# EAGLE library part MPU_6050_PULPO (library MPU_6050_PULPO)
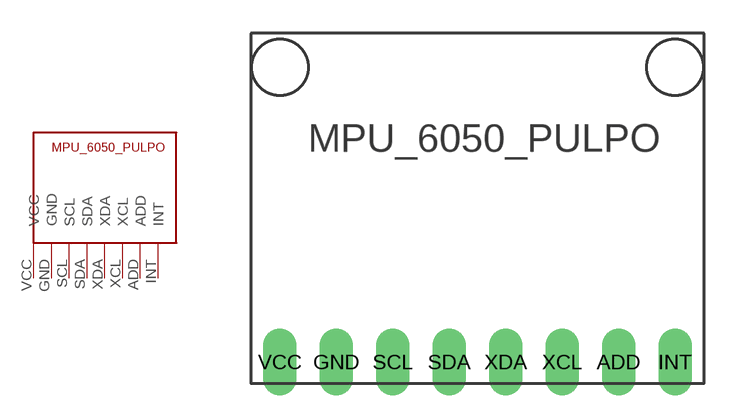
[diagram p0: symbol with the pads of MPU_6050_PULPO; footprint MPU_6050_PULPO]

Designator prefix -

## MPU_6050_PULPO  [MPU_6050_PULPO]
ADD  ADD
GND  GND
INT  INT
SCL  SCL
SDA  SDA
VCC  VCC
XCL  XCL
XDA  XDA

## Footprint MPU_6050_PULPO (pad centres in mm)
drill 1 pad 1.5 long: ADD 6.35,-6.925; GND -6.35,-6.925; INT 8.89,-6.925; SCL -3.81,-6.925; SDA -1.27,-6.925; VCC -8.89,-6.925; XCL 3.81,-6.925; XDA 1.27,-6.925